# EAGLE library part MPU6050 (library invensense)
6-Axis Motion Sensor I2C interface only
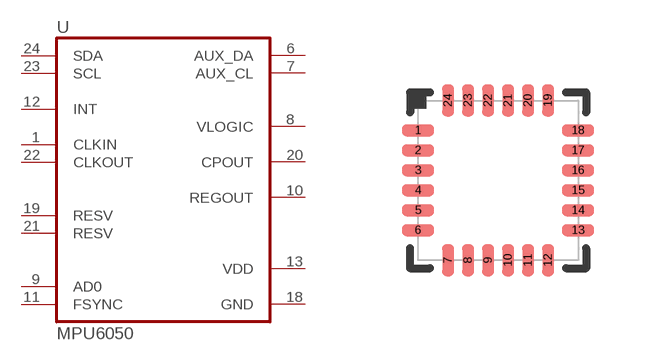
[diagram p0: symbol with the pads of HVQFN24_NS; footprint HVQFN24_NS]

Designator prefix U

## MPU6050  [HVQFN24_NS]
1  CLKIN  in
6  AUX_DA
7  AUX_CL
8  VLOGIC  pas
9  AD0  in
10  REGOUT  pas
11  FSYNC  in
12  INT  out
13  VDD
18  GND
19  RESV  nc
20  CPOUT  pas
21  RESV  nc
22  CLKOUT  out
23  SCL
24  SDA

## Footprint HVQFN24_NS (pad centres in mm)
HVQFN24 body 4x4 mm, JDEC MO-220, outline SOT616-1 no heat slug pad
smd 0.8 x 0.3: 1 -2,1.25; 2 -2,0.75; 3 -2,0.25; 4 -2,-0.25; 5 -2,-0.75; 6 -2,-1.25; 13 2,-1.25; 14 2,-0.75; 15 2,-0.25; 16 2,0.25; 17 2,0.75; 18 2,1.25
smd 0.3 x 0.8: 7 -1.25,-2; 8 -0.75,-2; 9 -0.25,-2; 10 0.25,-2; 11 0.75,-2; 12 1.25,-2; 19 1.25,2; 20 0.75,2; 21 0.25,2; 22 -0.25,2; 23 -0.75,2; 24 -1.25,2